# Altium schematic symbol library AnalogDevicesSW.SchLib: 93 symbols (part 1 of 3)
Pins are listed as number, name and electrical type; pins without a type are passive.

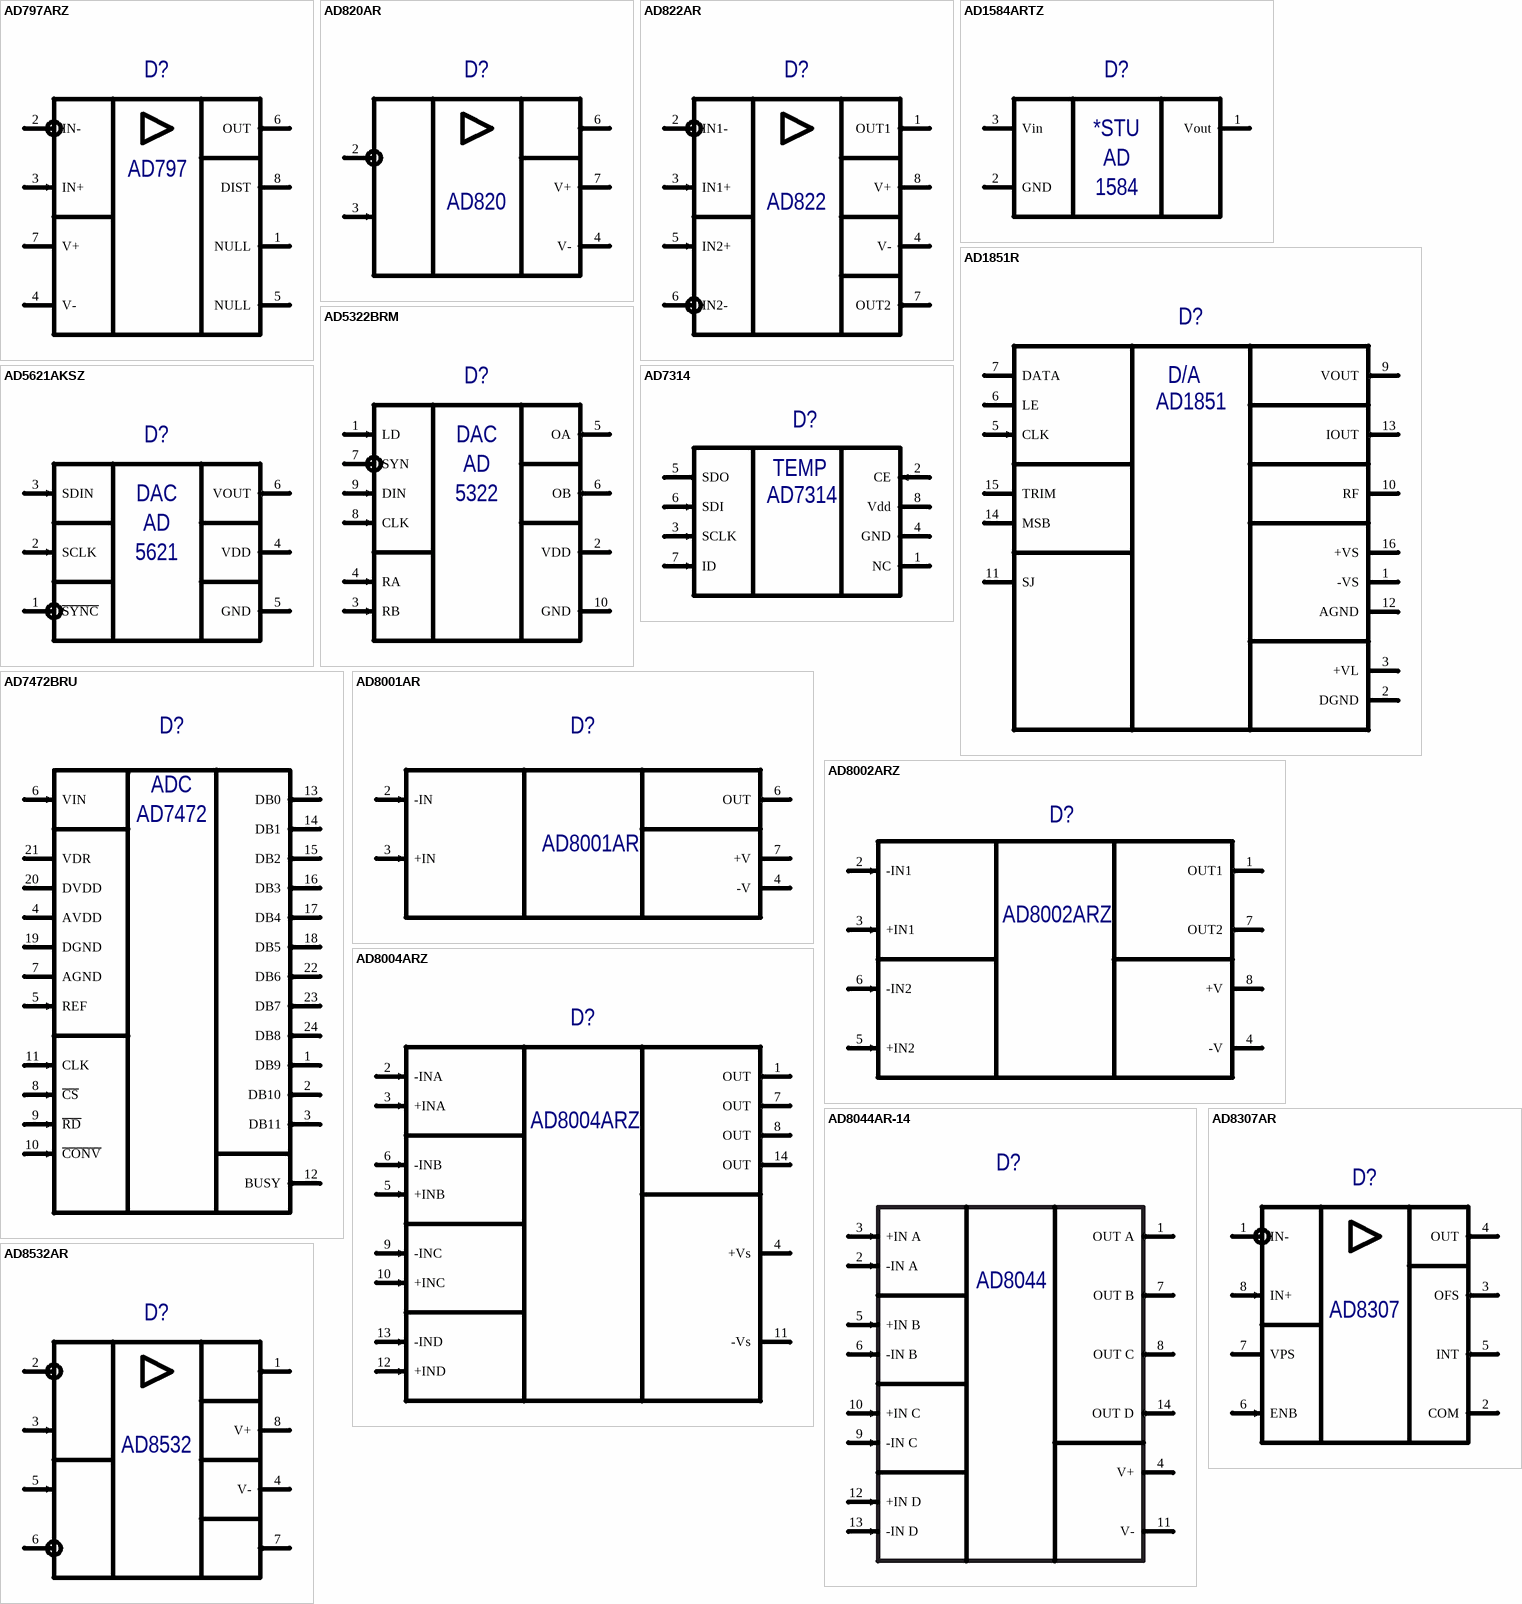
[diagram p0: symbols AD797ARZ to AD8532AR]

## AD797ARZ
designator D?  (value not drawn)
Ultralow Noise Op Amp; Manufacturer: Analog Devices; Type: Микросхема; BCPId: *; Name: *; Package: R-8; ManufacturerPartNumber: AD797ARZ
footprint SOIC127P600-8M (SOIC, 8-Leads, Body 4.9x3.9mm, Pitch 1.27mm, IPC Low Density)
pins: 1 NULL (power) "OFFSET NULL", 2 IN- (in) "IN1-", 3 IN+ (in) "IN1+", 4 V- (power) "0V power pin", 5 NULL (power) "OFFSET NULL", 6 OUT (out) "OUT2", 7 V+ (power) "5 V to 30 V power pin", 8 DIST (power) "OFFSET NULL"
text: AD797

## AD820AR
designator D?  (value not drawn)
Single Supply, Rail-to-Rail Low Power FET-Input Op Amp; Manufacturer: Analog Devices; Type: Микросхема; SymAuthor: Ерешко П.А.; BCPId: *; Name: *; Package: R-8; ManufacturerPartNumber: AD820AR
footprint SOIC127P600-8M (SOIC, 8-Leads, Body 4.9x3.9mm, Pitch 1.27mm, IPC Low Density)
pins: 2 IN- (in), 3 IN+ (in), 4 V- (power) "0V power pin", 6 OUT (out), 7 V+ (power) "5 V to 30 V power pin"
text: AD820

## AD822AR
designator D?  (value not drawn)
Single Supply, Rail-to-Rail Low Power FET-Input Op Amp; Manufacturer: Analog Devices; Type: Микросхема; BCPId: *; Name: *; Package: R-8; ManufacturerPartNumber: AD822AR
footprint SOIC127P600-8M (SOIC, 8-Leads, Body 4.9x3.9mm, Pitch 1.27mm, IPC Low Density)
pins: 1 OUT1 (out), 2 IN1- (in), 3 IN1+ (in), 4 V- (power) "0V power pin", 5 IN2+ (in), 6 IN2- (in), 7 OUT2 (out), 8 V+ (power) "5 V to 30 V power pin"
text: AD822

## AD1584ARTZ
designator D?  (value not drawn)
4.096 V Micropower, Precision Series Mode Voltage Reference; Manufacturer: Analog Devices; Type: Микросхема; BCPId: *; Name: *; Package: SOT-23-3; ManufacturerPartNumber: AD1584ARTZ
footprint SOT23-3L (SOT23, 3-Leads, Body 2.9x1.3mm, Pitch 0.95mm, Lead Span 2.5mm, IPC High Density)
footprint SOT23-3M (SOT23, 3-Leads, Body 2.9x1.3mm, Pitch 0.95mm, Lead Span 2.5mm, IPC Low Density)
footprint SOT23-3N (SOT23, 3-Leads, Body 2.9x1.3mm, Pitch 0.95mm, Lead Span 2.5mm, IPC Medium Density)
pins: 1 Vout (power) "Output", 2 GND (power) "Ground", 3 Vin (power) "Input"
text: *STU; AD; 1584

## AD1851R
designator D?  (value not drawn)
16-Bit DAC; Manufacturer: Analog Devices; Type: Микросхема; BCPId: *; Name: *; Package: R-16 (16-pin SOIC); ManufacturerPartNumber: AD1851R
footprint SOIC127P1030X265-16N (SOIC, 16-Leads, Body 10,30x7,50mm, Pitch 1,27mm, IPC Medium Density)
pins: 1 -VS (power) "Analog Negative Power Supply", 2 DGND (power) "Logic Ground", 3 +VL (power) "Logic Positive Power Supply", 4 NC hidden, 5 CLK (in) "Clock Input", 6 LE "Latch Enable Input", 7 DATA "Serial Data Input", 8 NC hidden, 9 VOUT (out) "Voltage Output", 10 RF "Feedback Resistor", 11 SJ "Summing Junction", 12 AGND (power) "Analog Ground", 13 IOUT (out) "Current Output", 14 MSB "MSB Adjustment Terminal", 15 TRIM "MSB Trimming Potentiometer Terminal", 16 +VS (power) "Analog Positive Power Supply"
text: D/A; AD1851

## AD5322BRM
designator D?  (value not drawn)
12-Bit DAC; Manufacturer: Analog Devices; Type: Микросхема; BCPId: *; Name: *; Package: RM-10; ManufacturerPartNumber: AD5322BRM
footprint TSSOP50P490X110-10N (TSSOP, 10-Leads, Body 3,0x3,0mm (max), Pitch 0,50mm, IPC Medium Density)
pins: 1 LD (in) "Active Low Control Input.", 2 VDD (power) "Power Supply Input from 2.5 V to 5.5 V", 3 RB (in) "Reference Input Pin for DAC B", 4 RA (in) "Reference Input Pin for DAC A", 5 OA (out) "Buffered Analog Output Voltage from DAC A", 6 OB (out) "Buffered Analog Output Voltage from DAC B", 7 SYN (in) "Active Low Control Input", 8 CLK (in) "Serial Clock Input", 9 DIN (in) "Serial Data Input", 10 GND (power) "Ground Reference Point for All Circuitry on the Part"
text: DAC; AD; 5322

## AD5621AKSZ
designator D?  (value not drawn)
12-Bit DAC; Manufacturer: Analog Devices; Type: Микросхема; SymAuthor: Ерешко П.А.; BCPId: *; Name: *; Package: KS-6; ManufacturerPartNumber: AD5621AKSZ
footprint SC70-6 (6-Lead Plastic SC70)
pins: 1 ~{SYNС} (in) "Active Low Control Input", 2 SCLK (in) "Serial Clock Input", 3 SDIN (in) "Serial Data Input", 4 VDD (power) "Power Supply Input from 2.7 V to 5.5 V", 5 GND (power) "Ground", 6 VOUT (out) "Analog Output Voltage from the DAC"
text: DAC; AD; 5621

## AD7314
designator D?  (value not drawn)
Low Voltage, 10-Bit Digital Temperature  Sensor in 8-Lead MSOP; Manufacturer: Analog Devices; ManufacturerPartNumber: AD7314ARMZ; Type: Микросхема; SymAuthor: Календарова В.; BCPId: *; Package: RM-8; TU/GOST: *
footprint TSOP65P490X110-8N (Shrink Small Outline; 8 Leads; Body Width 3 mm; Pitch 0.65 mm)
pins: 1 NC, 2 CE (in), 3 SCLK (in), 4 GND (power), 5 SDO (out), 6 SDI (in), 7 ID (in), 8 Vdd (power)
text: TEMP

## AD7472BRU
designator D?  (value not drawn)
АЦП одноканальный разрядностью 12 бит с параллельным интерфейсом; Manufacturer: Analog Devices; Type: Микросхема; SymAuthor: Семенов В.С.; BCPId: *; ManufacturerPartNumber: AD7472BRU; Package: RU-24
footprint TSOP65P640X120-24N (TSOP, 24-Leads, Body 6,6x4,5mm (max), Pitch 0,65mm, IPC Medium Density)
pins: 1 DB9 (out) "Цифровой выход параллельного интерфейса", 2 DB10 (out) "Цифровой выход параллельного интерфейса", 3 DB11 (out) "Цифровой выход параллельного интерфейса", 4 AVDD (power) "Вход питания аналоговых цепей", 5 REF (in) "Вход для внешнего опорного напряжения", 6 VIN (in) "Аналоговый вход для измеряемого напряжения", 7 AGND (power) "Земля аналоговых цепей", 8 ~{CS} (in) "Инверсный вход, выбор чипа", 9 ~{RD} (in) "Инверсный вход выбора режима чтения", 10 ~{CONV} (in) "Инверсный вход сигнала запуска преобразования", 11 CLK (in) "Вход тактирования параллельного интерфейса", 12 BUSY (out) "Цифровой выход сигнала индикации состояния микросхемы", 13 DB0 (out) "Цифровой выход параллельного интерфейса", 14 DB1 (out) "Цифровой выход параллельного интерфейса", 15 DB2 (out) "Цифровой выход параллельного интерфейса", 16 DB3 (out) "Цифровой выход параллельного интерфейса", 17 DB4 (out) "Цифровой выход параллельного интерфейса", 18 DB5 (out) "Цифровой выход параллельного интерфейса", 19 DGND (power) "Земля цифровых цепей", 20 DVDD (power) "Вход питания цифровых цепей", 21 VDR (power) "Вход питания драйверов цепей параллельного интерфейса", 22 DB6 (out) "Цифровой выход параллельного интерфейса", 23 DB7 (out) "Цифровой выход параллельного интерфейса", 24 DB8 (out) "Цифровой выход параллельного интерфейса"
text: ADC; AD7472

## AD8001AR
designator D?  (value not drawn)
800 MHz, 50 mW  Current Feedback Amplifier; Manufacturer: Analog Devices; Type: Микросхема; BCPId: *; ManufacturerPartNumber: AD8001AR; Package: R-8 (8-Lead SOIC)
footprint SOIC127P600-8M (SOIC, 8-Leads, Body 4.9x3.9mm, Pitch 1.27mm, IPC Low Density)
pins: 1 NC hidden, 2 -IN (in), 3 +IN (in), 4 -V (power), 5 NC hidden, 6 OUT (out), 7 +V (power), 8 NC hidden

## AD8002ARZ
designator D?
Dual 600 MHz, 50 mW  Current Feedback Amplifier; Manufacturer: Analog Devices; ManufacturerPartNumber: AD8002ARZ; Type: Микросхема; BCPId: *; Package: R-8 (8-Lead SOIC)
footprint SOIC127P600-8M (SOIC, 8-Leads, Body 4.9x3.9mm, Pitch 1.27mm, IPC Low Density)
pins: 1 OUT1 (out) "Output 1", 2 -IN1 (in) "Inverting Input 1", 3 +IN1 (in) "Noninverting Input 1", 4 -V (power) "VEE or Negative Supply", 5 +IN2 (in) "Noninverting Input 2", 6 -IN2 (in) "Inverting Input 2", 7 OUT2 (out) "Output 2", 8 +V (power) "VCC or Positive Supply"

## AD8004ARZ
designator D?, comment AD8004ARZ-14  (value not drawn)
Quad 3000 V/ms, 35 mW  Current Feedback Amplifier; Manufacturer: Analog Devices; Type: Микросхема; BCPId: *; Name: *; Package: R-14; ManufacturerPartNumber: AD8004ARZ-14
footprint SOIC127P600X175-14N (SOIC, 14-Leads, Body 8.7x3.9mm, Pitch 1.27mm, IPC Medium Density)
pins: 1 OUT (out), 2 -INA (in), 3 +INA (in), 4 +Vs (power), 5 +INB (in), 6 -INB (in), 7 OUT (out), 8 OUT (out), 9 -INC (in), 10 +INC (in), 11 -Vs (power), 12 +IND (in), 13 -IND (in), 14 OUT (out)

## AD8044AR-14
designator D?
Quad 150 MHz  Rail-to-Rail Amplifier; Manufacturer: Analog Devices; ManufacturerPartNumber: AD8044AR-14; Type: Микросхема; BCPId: *; Package: R-14
footprint SOIC127P600X175-14N (SOIC, 14-Leads, Body 8.7x3.9mm, Pitch 1.27mm, IPC Medium Density)
pins: 1 OUT A (out) "Output A channel", 2 -IN A (in) "Input A channel", 3 +IN A (in) "Input A channel", 4 V+ (power) "Power", 5 +IN B (in) "Input B channel", 6 -IN B (in) "Input B channel", 7 OUT B (out) "Output B channel", 8 OUT C (out) "Output C channel", 9 -IN C (in) "Input C channel", 10 +IN C (in) "Itput C channel", 11 V- (power) "Power", 12 +IN D (in) "Input D channel", 13 -IN D (in) "Input D channel", 14 OUT D (out) "Output D channel"
text: AD8044

## AD8307AR
designator D?  (value not drawn)
Logarithmic Amplifier DC-500 MHz, 92 dB; Manufacturer: Analog Devices; Type: Микросхема; BCPId: *; Name: *; Package: SO-8; ManufacturerPartNumber: AD8307AR
footprint SOIC127P600-8M (SOIC, 8-Leads, Body 4.9x3.9mm, Pitch 1.27mm, IPC Low Density)
pins: 1 IN- (in), 2 COM (power) "Common Pin (Usually Grounded).", 3 OFS (out) "Offset Adjustment; External Capacitor  Connection", 4 OUT (out), 5 INT (out) "Intercept Adjustment", 6 ENB (in) "Chip Enable", 7 VPS (power) "Positive Supply, 2.7V–5.5V.", 8 IN+ (in)
text: AD8307

## AD8532AR
designator D?  (value not drawn)
Low Cost, 250 mA Output Single-Supply Amplifier; Manufacturer: Analog Devices; Type: Микросхема; BCPId: *; Name: *; Package: RN-8; ManufacturerPartNumber: AD8532AR
footprint SOIC127P600-8M (SOIC, 8-Leads, Body 4.9x3.9mm, Pitch 1.27mm, IPC Low Density)
pins: 1 OUTA (out), 2 INA- (in), 3 INA+ (in), 4 V- (power) "0V power pin", 5 INB+ (in), 6 INB- (in), 7 OUTB (out), 8 V+ (power) "+2.7-6.0 V power pin"
text: AD8532

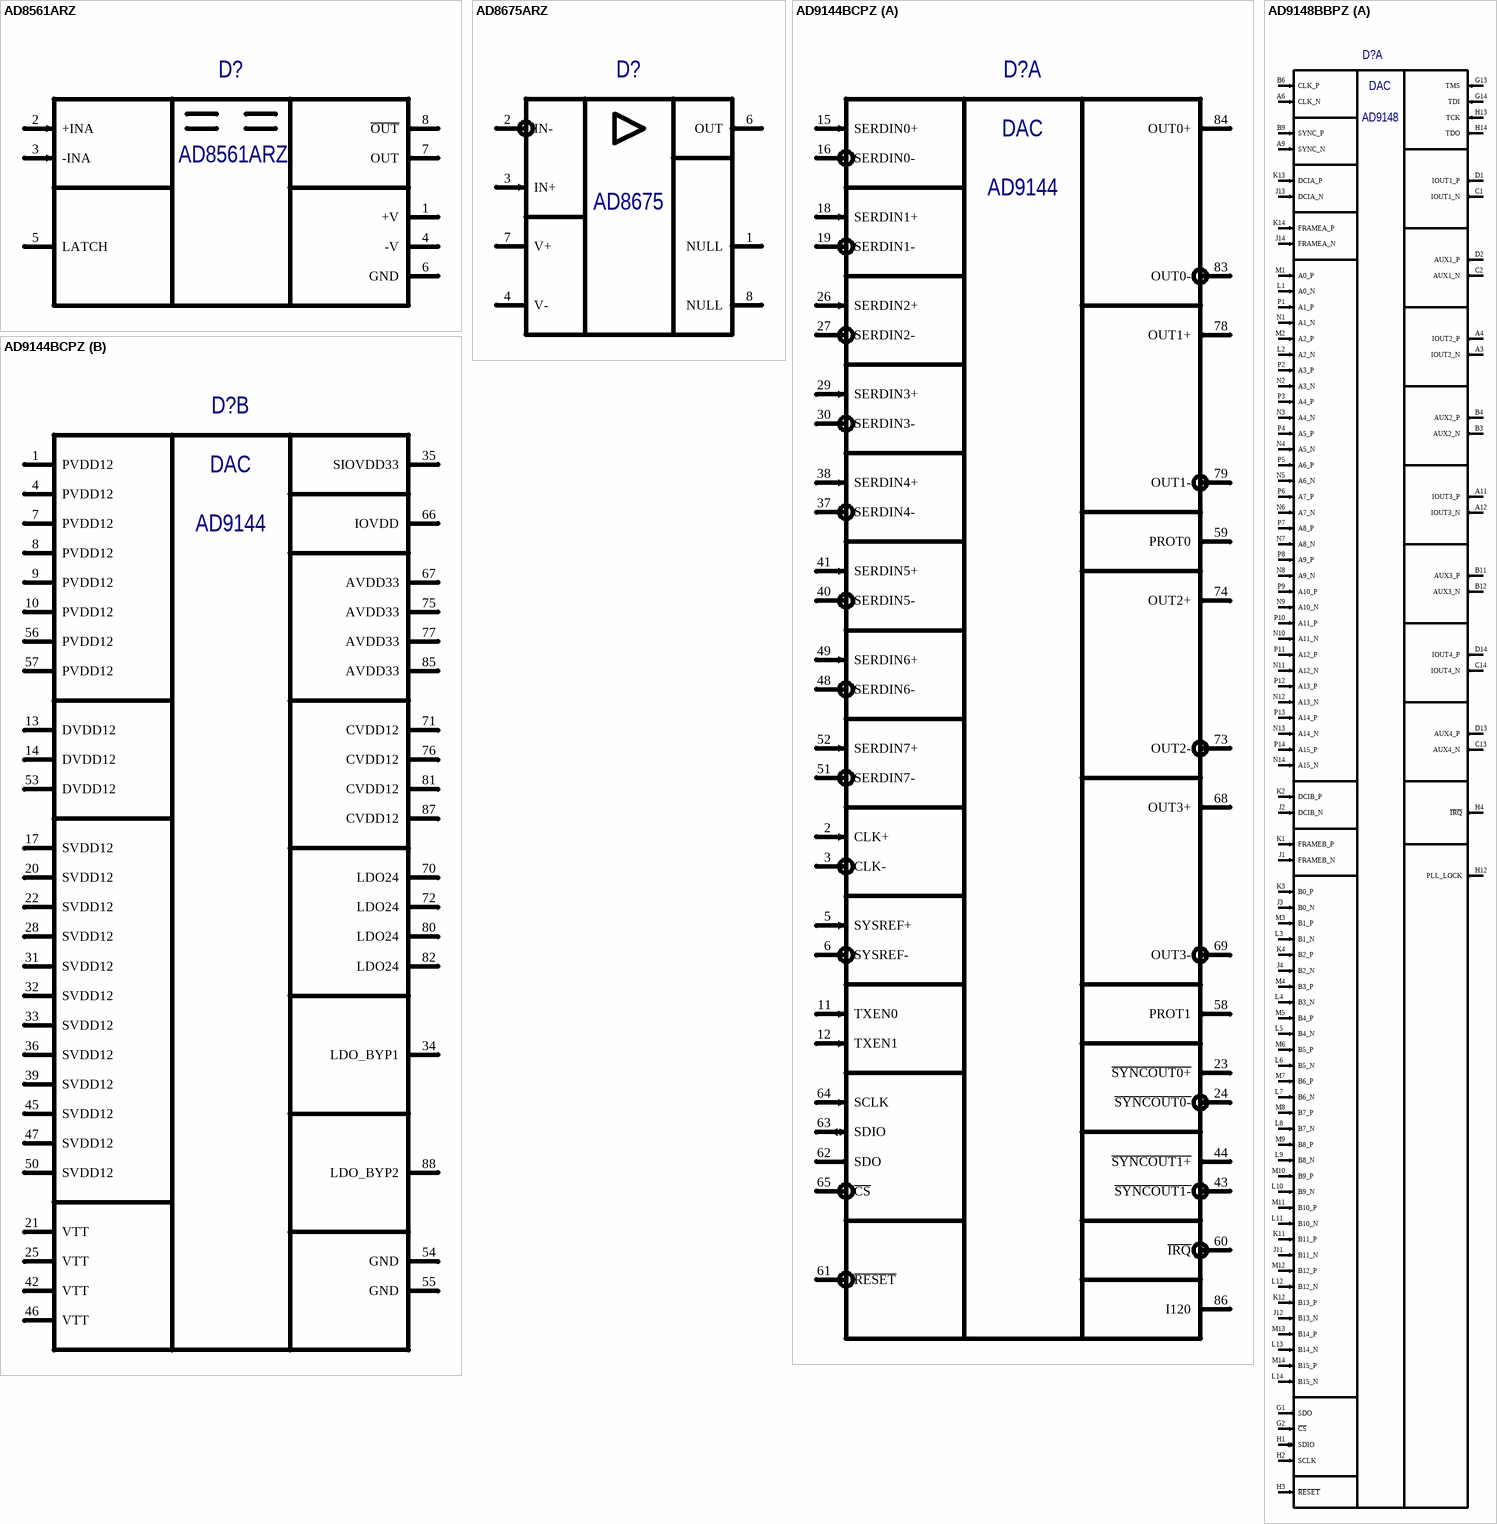
[diagram p1: symbols AD8561ARZ to AD9148BBPZ]

## AD8561ARZ
designator D?  (value not drawn)
Ultrafast 7 ns  Single Supply Comparator; Manufacturer: Analog Devices; Type: Микросхема; BCPId: *; Name: *; Package: R-8; ManufacturerPartNumber: AD8561ARZ
footprint SOIC127P600-8M (SOIC, 8-Leads, Body 4.9x3.9mm, Pitch 1.27mm, IPC Low Density)
pins: 1 +V (power), 2 +INA (in), 3 -INA (in), 4 -V (power), 5 LATCH, 6 GND (power), 7 OUT (out), 8 ~{OUT} (out)

## AD8675ARZ
designator D?  (value not drawn)
36 V Precision, 2.8 nV/√Hz  Rail-to-Rail Output Op Amp; Manufacturer: Analog Devices; Type: Микросхема; BCPId: *; Name: *; Package: R-8; ManufacturerPartNumber: AD8675ARZ
footprint SOIC127P600-8M (SOIC, 8-Leads, Body 4.9x3.9mm, Pitch 1.27mm, IPC Low Density)
pins: 1 NULL (power) "OUT1", 2 IN- (in) "IN1-", 3 IN+ (in) "IN1+", 4 V- (power) "0V power pin", 6 OUT (out) "OUT2", 7 V+ (power) "5 V to 30 V power pin", 8 NULL (power) "5 V to 30 V power pin"
text: AD8675

## AD9144BCPZ
designator D?  (value not drawn)
Quad, 16-Bit, 2.8 GSPS, TxDAC; Manufacturer: Analog Devices; Type: Микросхема; SymAuthor: Ерешко П.А.; Package: CP-88-6; ManufacturerPartNumber: AD9144BCPZ
footprint QFN50P1200X1200X90_HS-89N (QFN, 88-Leads, Body 12,00x12,00mm, Pitch 0,50mm, Thermal Pad 7,40x7,40mm, IPC Medium Density)
part A pins: 2 CLK+ (in) "PLL Reference/Clock Positive Input", 3 CLK- (in) "PLL Reference/Clock Negative Input", 5 SYSREF+ (in) "Positive Reference Clock for Deterministic Latency", 6 SYSREF- (in) "Negative Reference Clock for Deterministic Latency", 11 TXEN0 (in) "Transmit Enable for DAC0 and DAC1", 12 TXEN1 (in) "Transmit Enable for DAC2 and DAC3", 15 SERDIN0+ (in) "Serial Channel Positive Input 0. CML compliant", 16 SERDIN0- (in) "Serial Channel Negative Input 0. CML compliant", 18 SERDIN1+ (in) "Serial Channel Positive Input 1. CML compliant", 19 SERDIN1- (in) "Serial Channel Negative Input 1. CML compliant", 23 ~{SYNCOUT0+} (out) "Positive LVDS Sync Output Signal Channel Link 0", 24 ~{SYNCOUT0-} (out) "Negative LVDS Sync Output Signal Channel Link 0", 26 SERDIN2+ (in) "Serial Channel Positive Input 2. CML compliant", 27 SERDIN2- (in) "Serial Channel Negative Input 2. CML compliant", 29 SERDIN3+ (in) "Serial Channel Positive Input 3. CML compliant", 30 SERDIN3- (in) "Serial Channel Negative Input 3. CML compliant", 37 SERDIN4- (in) "Serial Channel Negative Input 4. CML compliant", 38 SERDIN4+ (in) "Serial Channel Positive Input 4. CML compliant", 40 SERDIN5- (in) "Serial Channel Negative Input 5. CML compliant", 41 SERDIN5+ (in) "Serial Channel Positive Input 5. CML compliant", 43 ~{SYNCOUT1-} (out) "Negative LVDS Sync Output Signal Channel Link 1", 44 ~{SYNCOUT1+} (out) "Positive LVDS Sync Output Signal Channel Link 1", 48 SERDIN6- (in) "Serial Channel Negative Input 6. CML compliant", 49 SERDIN6+ (in) "Serial Channel Positive Input 6. CML compliant", 51 SERDIN7- (in) "Serial Channel Negative Input 7. CML compliant", 52 SERDIN7+ (in) "Serial Channel Positive Input 7. CML compliant", 58 PROT1 (out) "Power Detection Protection", 59 PROT0 (out) "Power Detection Protection", 60 ~{IRQ} (out) "Interrupt Request", 61 ~{RESET} (in) "Reset. This pin is active low", 62 SDO (out) "Serial Port Data Output", 63 SDIO (io) "Serial Port Data Input/Output", 64 SCLK (in) "Serial Port Clock Input", 65 ~{CS} (in) "Serial Port Chip Select", 68 OUT3+ (out) "DAC3 Positive Current Output", 69 OUT3- (out) "DAC3 Negative Current Output", 73 OUT2- (out) "DAC2 Negative Current Output", 74 OUT2+ (out) "DAC2 Positive Current Output", 78 OUT1+ (out) "DAC1 Positive Current Output.", 79 OUT1- (out) "DAC1 Negative Current Output.", 83 OUT0- (out) "DAC0 Negative Current Output", 84 OUT0+ (out) "DAC0 Positive Current Output", 86 I120 "Output Current Generation Pin for DAC Full-Scale Current", EPAD (power) hidden to GND "Exposed Pad. Connect to GND"
part B pins: 1 PVDD12 (power) "1.2V Supply", 4 PVDD12 (power) "1.2 V Supply. PVDD12 provides a clean supply", 7 PVDD12 (power) "1.2 V Supply. PVDD12 provides a clean supply", 8 PVDD12 (power) "1.2 V Supply. PVDD12 provides a clean supply", 9 PVDD12 (power) "1.2 V Supply. PVDD12 provides a clean supply", 10 PVDD12 (power) "1.2 V Supply. PVDD12 provides a clean supply", 13 DVDD12 (power) "1.2 V Digital Supply", 14 DVDD12 (power) "1.2 V Digital Supply", 17 SVDD12 (power) "1.2 V JESD204B Receiver Supply", 20 SVDD12 (power) "1.2 V JESD204B Receiver Supply", 21 VTT (power) "1.2 V Termination Voltage", 22 SVDD12 (power) "1.2 V JESD204B Receiver Supply", 25 VTT (power) "1.2 V Termination Voltage", 28 SVDD12 (power) "1.2 V JESD204B Receiver Supply", 31 SVDD12 (power) "1.2 V JESD204B Receiver Supply.", 32 SVDD12 (power) "1.2 V JESD204B Receiver Supply.", 33 SVDD12 (power) "1.2 V JESD204B Receiver Supply.", 34 LDO_BYP1 "LDO SERDES Bypass", 35 SIOVDD33 (power) "3.3 V Supply for SERDES", 36 SVDD12 (power) "1.2 V JESD204B Receiver Supply", 39 SVDD12 (power) "1.2 V JESD204B Receiver Supply", 42 VTT (power) "1.2 V Termination Voltage", 45 SVDD12 (power) "1.2 V JESD204B Receiver Supply", 46 VTT (power) "1.2 V Termination Voltage", 47 SVDD12 (power) "1.2 V JESD204B Receiver Supply", 50 SVDD12 (power) "1.2 V JESD204B Receiver Supply", 53 DVDD12 (power) "1.2 V Digital Supply", 54 GND (power) "Ground", 55 GND (power) "Ground", 56 PVDD12 (power) "1.2 V Supply", 57 PVDD12 (power) "1.2 V Supply", 66 IOVDD (power) "IOVDD Supply for CMOS Input/Output and SPI", 67 AVDD33 (power) "3.3 V Analog Supply for DAC Cores", 70 LDO24 "2.4 V LDO", 71 CVDD12 "1.2 V Clock Supply. Place bypass capacitors as near as possible to Pin 71", 72 LDO24 "2.4 V LDO", 75 AVDD33 (power) "3.3 V Analog Supply for DAC Cores.", 76 CVDD12 "1.2 V Clock Supply. Place bypass capacitors as near as possible to Pin 76", 77 AVDD33 (power) "3.3 V Analog Supply for DAC Cores.", 80 LDO24 "2.4 V LDO", 81 CVDD12 "1.2 V Clock Supply. Place bypass capacitors as near as possible to Pin 81", 82 LDO24 "2.4 V LDO", 85 AVDD33 (power) "3.3 V Analog Supply for DAC Cores", 87 CVDD12 "1.2 V Clock Supply", 88 LDO_BYP2 "LDO Clock Bypass for DAC PLL"
part A text: DAC; AD9144
part B text: DAC; AD9144

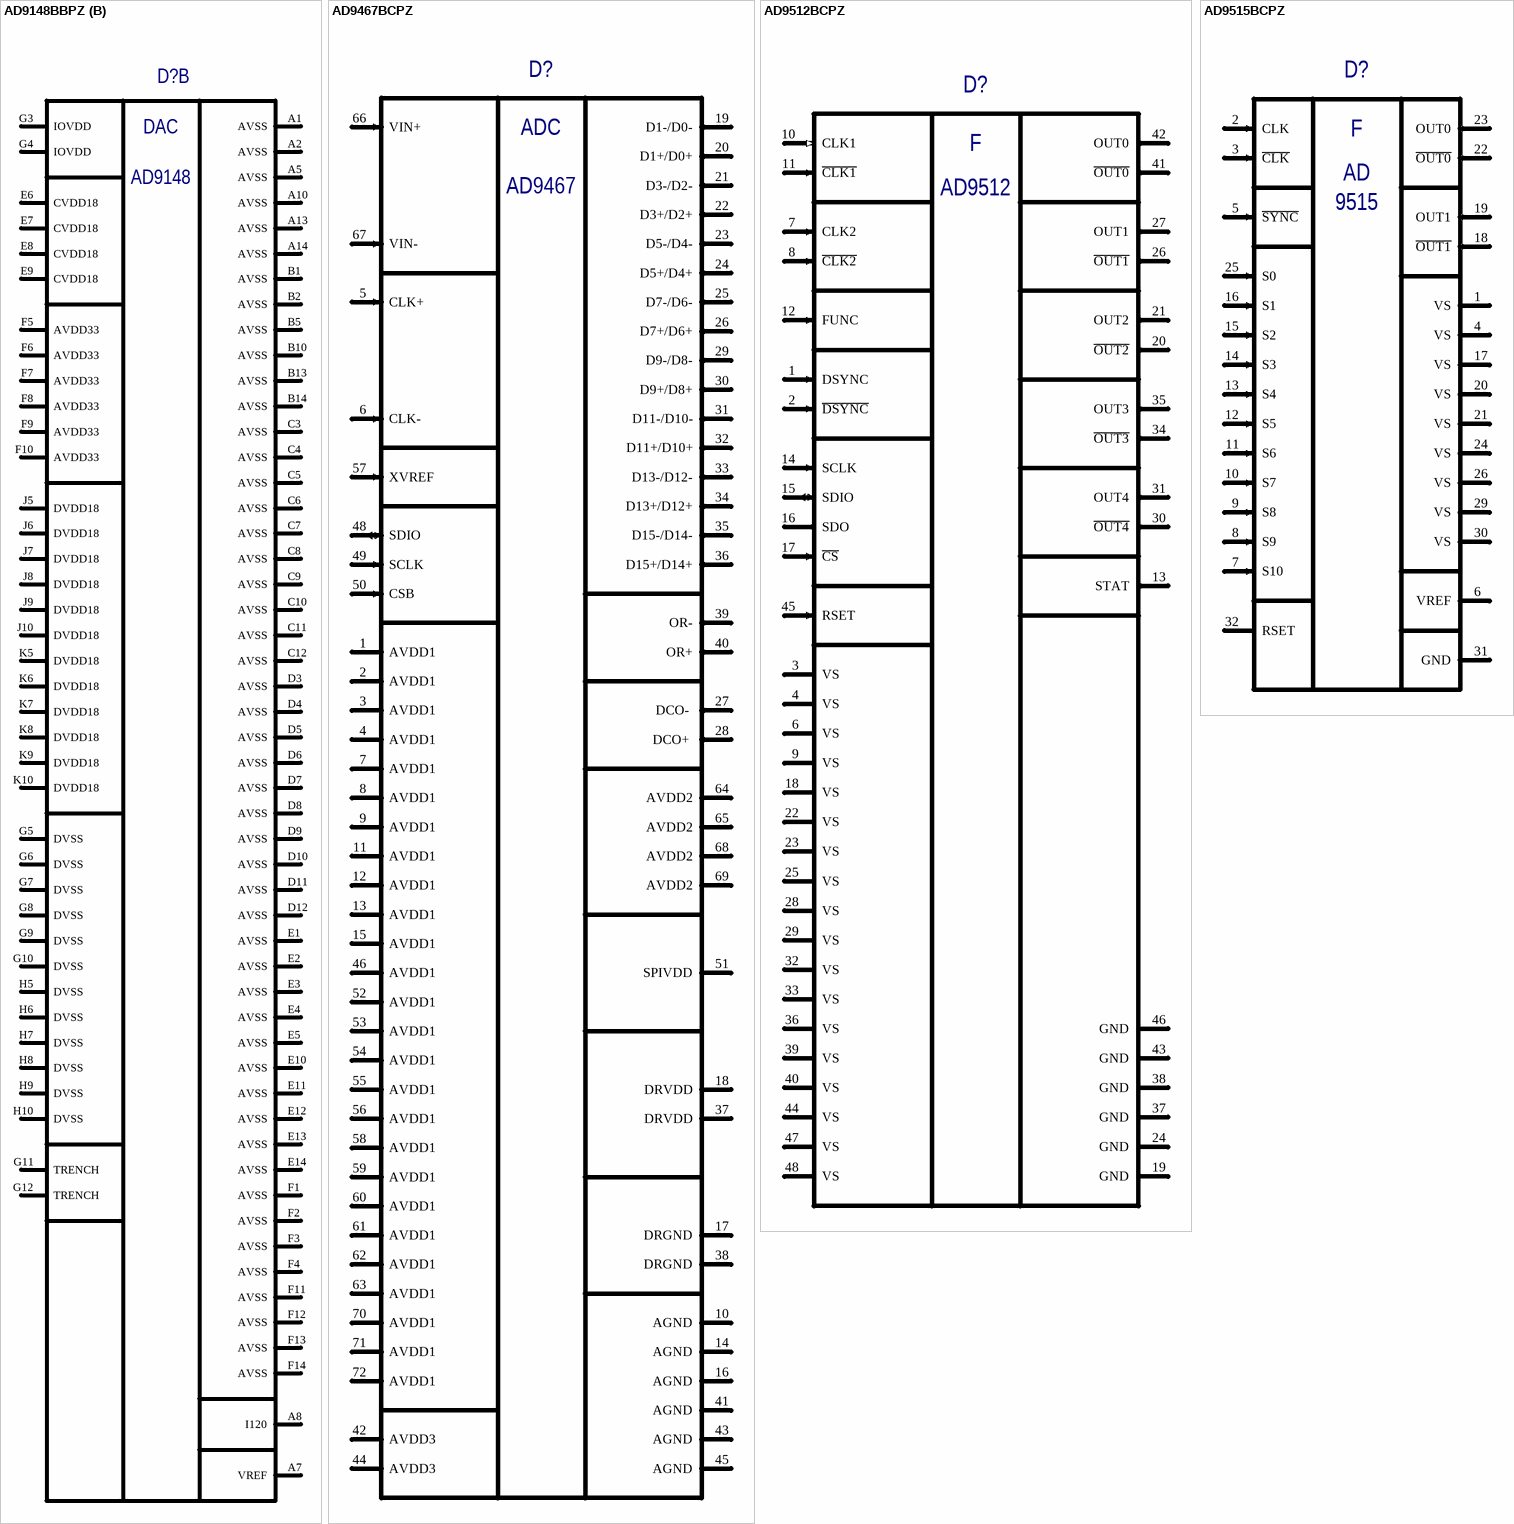
[diagram p2: symbols AD9148BBPZ to AD9515BCPZ]

## AD9148BBPZ
designator D?  (value not drawn)
Quad 16-Bit,1 GSPS digital-to analog converter (DAC).; Manufacturer: Analog Devices; Type: Микросхема; SymAuthor: Антонов М.С.; BCPId: *; HelpURL: *; ManufacturerPartNumber: AD9148BBPZ; Name: *; Package: BP-196-1; Price: *; Rem: *; TU/GOST: *
footprint BGA196C80P14X14_1200X1200X150 (BGA, 196-Leads, Body 12,00x12,00mmx1,50mm, Pitch 0,80mm)
part A pins:  L1 A0_N (in) "LVDS Data Input Pair, Port A.",  L2 A2_N (in) "LVDS Data Input Pair, Port A.", A3  IOUT2_N  (out) "DAC 2 Complementary Output Current.", A4  IOUT2_P  (out) "DAC 2 Positive Output Current.", A6 CLK_N (in) "Positive/Negative DAC Clock Input (CLK).", A9 SYNC_N (in) "PLL Reference Clock Input (REFCLK_x). This pin has a secondary function as", A11 IOUT3_P  (out) "DAC 3 Complementary Output Current.", A12 IOUT3_N  (out) "DAC 3 Positive Output Current.", B3  AUX2_N  (out) "Auxiliary DAC 2 Complementary Output Current.", B4  AUX2_P  (out) "Auxiliary DAC 2 Positive Output Current.", B6 CLK_P (in) "Positive/Negative DAC Clock Input (CLK).", B9 SYNC_P (in) "PLL Reference Clock Input (REFCLK_x). This pin has a secondary function as", B11  AUX3_P  (out) "Auxiliary DAC 3 Positive Output Current.", B12  AUX3_N  (out) "Auxiliary DAC 3 Complementary Output Current.", C1 IOUT1_N  (out) "DAC 1 Complementary Output Current.", C2  AUX1_N  (out) "Auxiliary DAC 1 Complementary Output Current.", C13  AUX4_N  (out) "Auxiliary DAC 4 Complementary Output Current.", C14  IOUT4_N  (out) "DAC 4 Complementary Output Current.", D1 IOUT1_P  (out) "DAC 1 Positive Output Current.", D2  AUX1_P  (out) "Auxiliary DAC 1 Positive Output Current.", D13  AUX4_P  (out) "Auxiliary DAC 4 Positive Output Current.", D14  IOUT4_P  (out) "DAC 4 Positive Output Current.", G1 SDO  (out) "Serial Data Output for SPI.", G2 ~{CS} (in) "Active Low Chip Select for SPI.", G13  TMS  (in) "Reserved for Future Use. Connect to DVSS.", G14  TDI  (in) "Reserved for Future Use. Connect to DVSS.", H1 SDIO  (io) "Serial Data Input/Output for SPI.", H2 SCLK  (in) "Qualifying Clock Input for SPI.", H3 ~{RESET} (in) "An active low LVCMOS input resets the device. Pull up to IOVDD.", H4 ~{IRQ} (out) "Active Low Open-Drain Interrupt Request Output. Pull up to IOVDD with   a 10 kΩresistor", H12 PLL_LOCK (out) "Active High LVCMOS Output. It indicates the lock status of the PLL circuitry.", H13  TCK  (in) "Reserved for Future Use. Connect to DVSS.", H14  TDO  (out) "Reserved for Future Use. Leave unconnected.", J1 FRAMEB_N (in) "LVDS Frame Input for Port B. Tie to LVDS logic low if not used.", J2 DCIB_N (in) "LVDS Data Clock Input Pair for Port B.", J3  B0_N  (in) "LVDS Data Input Pair, Port A.", J4  B2_N  (in) "LVDS Data Input Pair, Port A.", J11  B11_N (in) "LVDS Data Input Pair, Port A.", J12  B13_N (in) "LVDS Data Input Pair, Port A.", J13 DCIA_N  (in) "LVDS Data Clock Input Pair for Port A.", J14 FRAMEA_N (in) "LVDS Frame Input for Port A. Tie to LVDS logic low if not used.", K1 FRAMEB_P (in) "LVDS Frame Input for Port B. Tie to LVDS logic low if not used.", K2 DCIB_P (in) "LVDS Data Clock Input Pair for Port B.", K3 B0_P (in) "LVDS Data Input Pair, Port A.", K4 B2_P (in) "LVDS Data Input Pair, Port A.", K11 B11_P (in) "LVDS Data Input Pair, Port A.", K12 B13_P (in) "LVDS Data Input Pair, Port A.", K13 DCIA_P (in) "LVDS Data Clock Input Pair for Port A.", K14 FRAMEA_P  (in) "LVDS Frame Input for Port A. Tie to LVDS logic low if not used.", L3  B1_N  (in) "LVDS Data Input Pair, Port A.", L4  B3_N  (in) "LVDS Data Input Pair, Port A.", L5  B4_N  (in) "LVDS Data Input Pair, Port A.", L6  B5_N  (in) "LVDS Data Input Pair, Port A.", L7  B6_N (in) "LVDS Data Input Pair, Port A.", L8  B7_N (in) "LVDS Data Input Pair, Port A.", L9  B8_N (in) "LVDS Data Input Pair, Port A.", L10  B9_N (in) "LVDS Data Input Pair, Port A.", L11  B10_N (in) "LVDS Data Input Pair, Port A.", L12  B12_N (in) "LVDS Data Input Pair, Port A.", L13  B14_N (in) "LVDS Data Input Pair, Port A.", L14  B15_N (in) "LVDS Data Input Pair, Port A.", M1 A0_P (in) "LVDS Data Input Pair, Port A.", M2 A2_P (in) "LVDS Data Input Pair, Port A.", M3 B1_P (in) "LVDS Data Input Pair, Port A.", M4 B3_P (in) "LVDS Data Input Pair, Port A.", M5 B4_P (in) "LVDS Data Input Pair, Port A.", M6 B5_P (in) "LVDS Data Input Pair, Port A.", M7 B6_P (in) "LVDS Data Input Pair, Port A.", M8 B7_P (in) "LVDS Data Input Pair, Port A.", M9 B8_P (in) "LVDS Data Input Pair, Port A.", M10 B9_P (in) "LVDS Data Input Pair, Port A.", M11 B10_P (in) "LVDS Data Input Pair, Port A.", M12 B12_P (in) "LVDS Data Input Pair, Port A.", M13 B14_P (in) "LVDS Data Input Pair, Port A.", M14 B15_P (in) "LVDS Data Input Pair, Port A.", N1 A1_N (in) "LVDS Data Input Pair, Port A.", N2 A3_N (in) "LVDS Data Input Pair, Port A.", N3 A4_N (in) "LVDS Data Input Pair, Port A.", N4 A5_N (in) "LVDS Data Input Pair, Port A.", N5 A6_N (in) "LVDS Data Input Pair, Port A.", N6 A7_N (in) "LVDS Data Input Pair, Port A.", N7 A8_N (in) "LVDS Data Input Pair, Port A.", N8 A9_N (in) "LVDS Data Input Pair, Port A.", N9 A10_N (in) "LVDS Data Input Pair, Port A.", N10 A11_N (in) "LVDS Data Input Pair, Port A.", N11 A12_N (in) "LVDS Data Input Pair, Port A.", N12 A13_N (in) "LVDS Data Input Pair, Port A.", N13 A14_N (in) "LVDS Data Input Pair, Port A.", N14 A15_N (in) "LVDS Data Input Pair, Port A.", P1 A1_P (in) "LVDS Data Input Pair, Port A.", P2 A3_P (in) "LVDS Data Input Pair, Port A.", P3 A4_P (in) "LVDS Data Input Pair, Port A.", P4 A5_P (in) "LVDS Data Input Pair, Port A.", P5 A6_P (in) "LVDS Data Input Pair, Port A.", P6 A7_P (in) "LVDS Data Input Pair, Port A.", P7 A8_P (in) "LVDS Data Input Pair, Port A.", P8 A9_P (in) "LVDS Data Input Pair, Port A.", P9 A10_P (in) "LVDS Data Input Pair, Port A.", P10 A11_P (in) "LVDS Data Input Pair, Port A.", P11 A12_P (in) "LVDS Data Input Pair, Port A.", P12 A13_P (in) "LVDS Data Input Pair, Port A.", P13 A14_P (in) "LVDS Data Input Pair, Port A.", P14 A15_P (in) "LVDS Data Input Pair, Port A."
part B pins: A1 AVSS (power) "Analog Supply Ground.", A2 AVSS (power) "Analog Supply Ground.", A5 AVSS (power) "Analog Supply Ground.", A7 VREF (power) "Band Gap Voltage Reference I/O. Decouple to analog ground via a 0.1 µF   capacitor. Output impedance is approximately 5 kΩ.", A8 I120 (power) "Tie to analog ground via a 10 kΩ resistor to generate a 120 µA reference current.", A10 AVSS (power) "Analog Supply Ground.", A13 AVSS (power) "Analog Supply Ground.", A14 AVSS (power) "Analog Supply Ground.", B1 AVSS (power) "Analog Supply Ground.", B2 AVSS (power) "Analog Supply Ground.", B5 AVSS (power) "Analog Supply Ground.", B7 NC hidden "Do not connect", B8 NC hidden "Do not connect", B10 AVSS (power) "Analog Supply Ground.", B13 AVSS (power) "Analog Supply Ground.", B14 AVSS (power) "Analog Supply Ground.", C3 AVSS (power) "Analog Supply Ground.", C4 AVSS (power) "Analog Supply Ground.", C5 AVSS (power) "Analog Supply Ground.", C6 AVSS (power) "Analog Supply Ground.", C7 AVSS (power) "Analog Supply Ground.", C8 AVSS (power) "Analog Supply Ground.", C9 AVSS (power) "Analog Supply Ground.", C10 AVSS (power) "Analog Supply Ground.", C11 AVSS (power) "Analog Supply Ground.", C12 AVSS (power) "Analog Supply Ground.", D3 AVSS (power) "Analog Supply Ground.", D4 AVSS (power) "Analog Supply Ground.", D5 AVSS (power) "Analog Supply Ground.", D6 AVSS (power) "Analog Supply Ground.", D7 AVSS (power) "Analog Supply Ground.", D8 AVSS (power) "Analog Supply Ground.", D9 AVSS (power) "Analog Supply Ground.", D10 AVSS (power) "Analog Supply Ground.", D11 AVSS (power) "Analog Supply Ground.", D12 AVSS (power) "Analog Supply Ground.", E1 AVSS (power) "Analog Supply Ground.", E2 AVSS (power) "Analog Supply Ground.", E3 AVSS (power) "Analog Supply Ground.", E4 AVSS (power) "Analog Supply Ground.", E5 AVSS (power) "Analog Supply Ground.", E6 CVDD18 (power) "1.8 V Clock Supply.", E7 CVDD18 (power) "1.8 V Clock Supply.", E8 CVDD18 (power) "1.8 V Clock Supply.", E9 CVDD18 (power) "1.8 V Clock Supply.", E10 AVSS (power) "Analog Supply Ground.", E11 AVSS (power) "Analog Supply Ground.", E12 AVSS (power) "Analog Supply Ground.", E13 AVSS (power) "Analog Supply Ground.", E14 AVSS (power) "Analog Supply Ground.", F1 AVSS (power) "Analog Supply Ground.", F2 AVSS (power) "Analog Supply Ground.", F3 AVSS (power) "Analog Supply Ground.", F4 AVSS (power) "Analog Supply Ground.", F5 AVDD33 (power) "3.3 V Analog Supply.", F6 AVDD33 (power) "3.3 V Analog Supply.", F7 AVDD33 (power) "3.3 V Analog Supply.", F8 AVDD33 (power) "3.3 V Analog Supply.", F9 AVDD33 (power) "3.3 V Analog Supply.", F10 AVDD33 (power) "3.3 V Analog Supply.", F11 AVSS (power) "Analog Supply Ground.", F12 AVSS (power) "Analog Supply Ground.", F13 AVSS (power) "Analog Supply Ground.", F14 AVSS (power) "Analog Supply Ground.", G3 IOVDD (power) "Supply for Serial Ports.", G4 IOVDD (power) "Supply for Serial Ports.", G5 DVSS (power) "Digital Supply Ground.", G6 DVSS (power) "Digital Supply Ground.", G7 DVSS (power) "Digital Supply Ground.", G8 DVSS (power) "Digital Supply Ground.", G9 DVSS (power) "Digital Supply Ground.", G10 DVSS (power) "Digital Supply Ground.", G11 TRENCH (power) "Connect this pin to VSS.", G12 TRENCH (power) "Connect this pin to VSS.", H5 DVSS (power) "Digital Supply Ground.", H6 DVSS (power) "Digital Supply Ground.", H7 DVSS (power) "Digital Supply Ground.", H8 DVSS (power) "Digital Supply Ground.", H9 DVSS (power) "Digital Supply Ground.", H10 DVSS (power) "Digital Supply Ground.", H11 NC hidden "Do not connect", J5 DVDD18 (power) "1.8 V Digital Supply.", J6 DVDD18 (power) "1.8 V Digital Supply.", J7 DVDD18 (power) "1.8 V Digital Supply.", J8 DVDD18 (power) "1.8 V Digital Supply.", J9 DVDD18 (power) "1.8 V Digital Supply.", J10 DVDD18 (power) "1.8 V Digital Supply.", K5 DVDD18 (power) "1.8 V Digital Supply.", K6 DVDD18 (power) "1.8 V Digital Supply.", K7 DVDD18 (power) "1.8 V Digital Supply.", K8 DVDD18 (power) "1.8 V Digital Supply.", K9 DVDD18 (power) "1.8 V Digital Supply.", K10 DVDD18 (power) "1.8 V Digital Supply."
part A text: DAC; AD9148
part B text: DAC; AD9148

## AD9467BCPZ
designator D?, comment AD9467BCPZ-250  (value not drawn)
16-Bit, 250 MSPS ADC; Manufacturer: Analog Devices; Type: Микросхема; BCPId: *; Name: *; Package: CP-72-5; ManufacturerPartNumber: AD9467BCPZ-250; HelpURL: *; Price: *; Rem: *; TU/GOST: *
footprint QFN50P1000X1000X90-72N (QFN, 72-Leads, Body 10,0x10,0mm (max), Pitch 0,50mm, IPC Medium Density)
footprint QFN50P1000X1000X90-72N-HS1 (QFN, 72-Leads, Body 10,0x10,0mm (max), Pitch 0,50mm, IPC Medium Density)
footprint QFN50P1000X1000X90-72N - HS2 (QFN, 72-Leads, Body 10,0x10,0mm (max), Pitch 0,50mm, IPC Medium Density)
pins: 1 AVDD1 (power) "1.8 V Analog Supply.", 2 AVDD1 (power) "1.8 V Analog Supply.", 3 AVDD1 (power) "1.8 V Analog Supply.", 4 AVDD1 (power) "1.8 V Analog Supply.", 5 CLK+  (in) "Clock Input True.", 6 CLK- (in) "Clock Input Complement.", 7 AVDD1 (power) "1.8 V Analog Supply.", 8 AVDD1 (power) "1.8 V Analog Supply.", 9 AVDD1 (power) "1.8 V Analog Supply.", 10 AGND (power) "Analog Ground.", 11 AVDD1 (power) "1.8 V Analog Supply.", 12 AVDD1 (power) "1.8 V Analog Supply.", 13 AVDD1 (power) "1.8 V Analog Supply.", 14 AGND (power) "Analog Ground.", 15 AVDD1 (power) "1.8 V Analog Supply.", 16 AGND (power) "Analog Ground.", 17 DRGND (power) "Digital Output Driver Ground.", 18 DRVDD (power) "1.8 V Digital Output Driver Supply.", 19 D1-/D0- (out) "D1 and D0 (LSB) Digital Output Complement.", 20 D1+/D0+ (out) "D1 and D0 (LSB) Digital Output True.", 21 D3-/D2- (out) "D3 and D2 Digital Output Complement.", 22 D3+/D2+ (out) "D3 and D2 Digital Output True.", 23 D5-/D4- (out) "D5 and D4 Digital Output Complement.", 24 D5+/D4+ (out) "D5 and D4 Digital Output True.", 25 D7-/D6- (out) "D7 and D6 Digital Output Complement.", 26 D7+/D6+ (out) "D7 and D6 Digital Output True.", 27 DCO-  (out) "Data Clock Digital Output Complement.", 28 DCO+  (out) "Data Clock Digital Output True.", 29 D9-/D8- (out) "D9 and D8 Digital Output Complement.", 30 D9+/D8+ (out) "D9 and D8 Digital Output True.", 31 D11-/D10- (out) "D11 and D10 Digital Output Complement.", 32 D11+/D10+ (out) "D11 and D10 Digital Output True.", 33 D13-/D12- (out) "D13 and D12 Digital Output Complement.", 34 D13+/D12+ (out) "D13 and D12 Digital Output True.", 35 D15-/D14- (out) "D15 (MSB) and D14 Digital Output Complement.", 36 D15+/D14+ (out) "D15 (MSB) and D14 Digital Output True.", 37 DRVDD (power) "1.8 V Digital Output Driver Supply.", 38 DRGND (power) "Digital Output Driver Ground.", 39 OR- (out) "Out-of-Range Digital Output Complement.", 40 OR+ (out) "Out-of-Range Digital Output True.", 41 AGND (power) "Analog Ground.", 42 AVDD3 (power) "1.8 V Analog Supply.", 43 AGND (power) "Analog Ground.", 44 AVDD3 (power) "1.8 V Analog Supply.", 45 AGND (power) "Analog Ground.", 46 AVDD1 (power) "1.8 V Analog Supply.", 48 SDIO  (io) "Serial Data Input/Output.", 49 SCLK  (in) "Serial Clock.", 50 CSB (in) "Chip Select Bar.", 51 SPIVDD (power) "1.8 V or 3.3 V SPI Supply", 52 AVDD1 (power) "1.8 V Analog Supply.", 53 AVDD1 (power) "1.8 V Analog Supply.", 54 AVDD1 (power) "1.8 V Analog Supply.", 55 AVDD1 (power) "1.8 V Analog Supply.", 56 AVDD1 (power) "1.8 V Analog Supply.", 57 XVREF (in) "External VREF Option.", 58 AVDD1 (power) "1.8 V Analog Supply.", 59 AVDD1 (power) "1.8 V Analog Supply.", 60 AVDD1 (power) "1.8 V Analog Supply.", 61 AVDD1 (power) "1.8 V Analog Supply.", 62 AVDD1 (power) "1.8 V Analog Supply.", 63 AVDD1 (power) "1.8 V Analog Supply.", 64 AVDD2 (power) "3.3 V Analog Supply.", 65 AVDD2 (power) "3.3 V Analog Supply.", 66 VIN+ (in) "Analog InputTrue", 67 VIN- (in) "Analog InputComplement", 68 AVDD2 (power) "3.3 V Analog Supply.", 69 AVDD2 (power) "3.3 V Analog Supply.", 70 AVDD1 (power) "1.8 V Analog Supply.", 71 AVDD1 (power) "1.8 V Analog Supply.", 72 AVDD1 (power) "1.8 V Analog Supply.", EPAD (power) hidden to GND "Exposed Paddle. The exposed paddle must be connected to AGND."
text: ADC; AD9467

## AD9512BCPZ
designator D?  (value not drawn)
1.2 GHz Clock Distribution IC, 1.6 GHz Inputs,Dividers,Delay Adjust, Five Outputs; Manufacturer: Analog Devices; Type: Микросхема; SymAuthor: Антонов М.С.; BCPid: *; ManufacturerPartNumber: AD9512BCPZ; TU/GOST: *; Price: *; Rem: *; Package: CP-48-1; Name: *
footprint QFN50P700X700X100-48N (QFN, 48-Leads, Body 7,0x7,0mm (max), Pitch 0,50mm, IPC Medium Density)
pins: 1  DSYNC  (in) "Detect Sync. Used for multichip synchronization.", 2  ~{DSYNC}  (in) "Detect Sync Complement. Used for multichip synchronization.", 3 VS  (power) "Power Supply (3.3 V).", 4 VS (power) "Power Supply (3.3 V).", 5 DNC (power) hidden "Do Not Connect.", 6 VS  (power) "Power Supply (3.3 V).", 7  CLK2  (in) "Clock Input.", 8  ~{CLK2} (in) "Complementary Clock Input. Used in conjunction with CLK2.", 9 VS (power) "Power Supply (3.3 V).", 10  CLK1  (in) "Clock Input.", 11  ~{CLK1}  (in) "Complementary Clock Input. Used in conjunction with CLK1.", 12  FUNC (in) "Multipurpose Input. Can be programmed as a reset (RESETB), sync (SYNCB), or power-down (PDB) pin.", 13  STAT (out) "Output Used to Monitor the Status of Multichip Synchronization.", 14  SCLK  (in) "Serial Data Clock.", 15  SDIO  (io) "Serial Data I/O.", 16  SDO  (out) "Serial Data Output.", 17  ~{CS} (in) "Serial Port Chip Select.", 18 VS  (power) "Power Supply (3.3 V).", 19 GND (power) "Ground.", 20 ~{OUT2} (out) "Complementary LVPECL Output.", 21  OUT2 (out) "LVPECL Output.", 22 VS (power) "Power Supply (3.3 V).", 23 VS  (power) "Power Supply (3.3 V).", 24 GND (power) "Ground.", 25 VS (power) "Power Supply (3.3 V).", 26  ~{OUT1} (out) "Complementary LVPECL Output.", 27  OUT1 (out) "LVPECL Output.", 28 VS  (power) "Power Supply (3.3 V).", 29 VS (power) "Power Supply (3.3 V).", 30  ~{OUT4} (out) "Complementary LVDS/Inverted CMOS Output. OUT4 includes a delay block.", 31  OUT4 (out) "LVDS/CMOS Output. OUT4 includes a delay block.", 32 VS  (power) "Power Supply (3.3 V).", 33 VS (power) "Power Supply (3.3 V).", 34  ~{OUT3} (out) "Complementary LVDS/Inverted CMOS Output.", 35  OUT3 (out) "LVDS/CMOS Output.", 36 VS  (power) "Power Supply (3.3 V).", 37 GND (power) "Ground.", 38 GND (power) "Ground.", 39 VS (power) "Power Supply (3.3 V).", 40 VS  (power) "Power Supply (3.3 V).", 41  ~{OUT0} (out) "Complementary LVPECL Output.", 42  OUT0 (out) "LVPECL Output.", 43 GND (power) "Ground.", 44 VS (power) "Power Supply (3.3 V).", 45  RSET  (in) "Current Set Resistor to Ground. Nominal value = 4.12 kΩ.", 46 GND (power) "Ground.", 47 VS  (power) "Power Supply (3.3 V).", 48 VS (power) "Power Supply (3.3 V).", EPAD GND hidden to GND
text: F; AD9512

## AD9515BCPZ
designator D?  (value not drawn)
1.6 GHz Clock Distribution IC, Dividers, Delay Adjust, Two Outputs; Manufacturer: Analog Devices; Type: Микросхема; BCPId: *; Name: *; Package: CP-32-2; ManufacturerPartNumber: AD9515BCPZ; HelpURL: *; Price: *; Rem: *; TU/GOST: *
footprint QFN50P500X500X100-32N+325x325 (QFN, 32-Leads, Body 5,0x5,0mm (max), Pitch 0,50mm, IPC Medium Density with thermal tab 3.25x3.25)
pins: 1 VS (power) "Power Supply (3.3 V)", 2 CLK (in) "Clock Input", 3 ~{CLK} (in) "Complementary Clock Input. Used in conjunction with CLK", 4 VS (power) "Power Supply (3.3 V)", 5 ~{SYNC} (in) "Used to Synchronize the Outputs; Active Low Signal", 6 VREF "Provides 2/3 VSReference Voltage for Use with Programming Pins S0 to S10", 7 S10 (in) "Programming Pin", 8 S9 (in) "Programming Pin", 9 S8 (in) "Programming Pin", 10 S7 (in) "Programming Pin", 11 S6 (in) "Programming Pin", 12 S5 (in) "Programming Pin", 13 S4 (in) "Programming Pin", 14 S3 (in) "Programming Pin", 15 S2 (in) "Programming Pin", 16 S1 (in) "Programming Pin", 17 VS (power) "Power Supply (3.3 V)", 18 ~{OUT1} (out) "Complementary LVDS/Inverted CMOS Output. Includes a delay block", 19 OUT1 (out) "LVDS/CMOS Output. Includes a delay block", 20 VS (power) "Power Supply (3.3 V)", 21 VS (power) "Power Supply (3.3 V)", 22 ~{OUT0} (out) "Complementary LVPECL Output", 23 OUT0 (out) "LVPECL Output", 24 VS (power) "Power Supply (3.3 V)", 25 S0 (in) "Programming Pin", 26 VS (power) "Power Supply (3.3 V)", 29 VS (power) "Power Supply (3.3 V)", 30 VS (power) "Power Supply (3.3 V)", 31 GND "Ground. The exposed paddle on the back of the chip is also GND", 32 RSET "Current Sets Resistor to Ground. Nominal value = 4.12 kΩ", EPAD GND (power) hidden to GND "Ground. The exposed paddle on the back of the chip is also GND"
text: F; AD; 9515

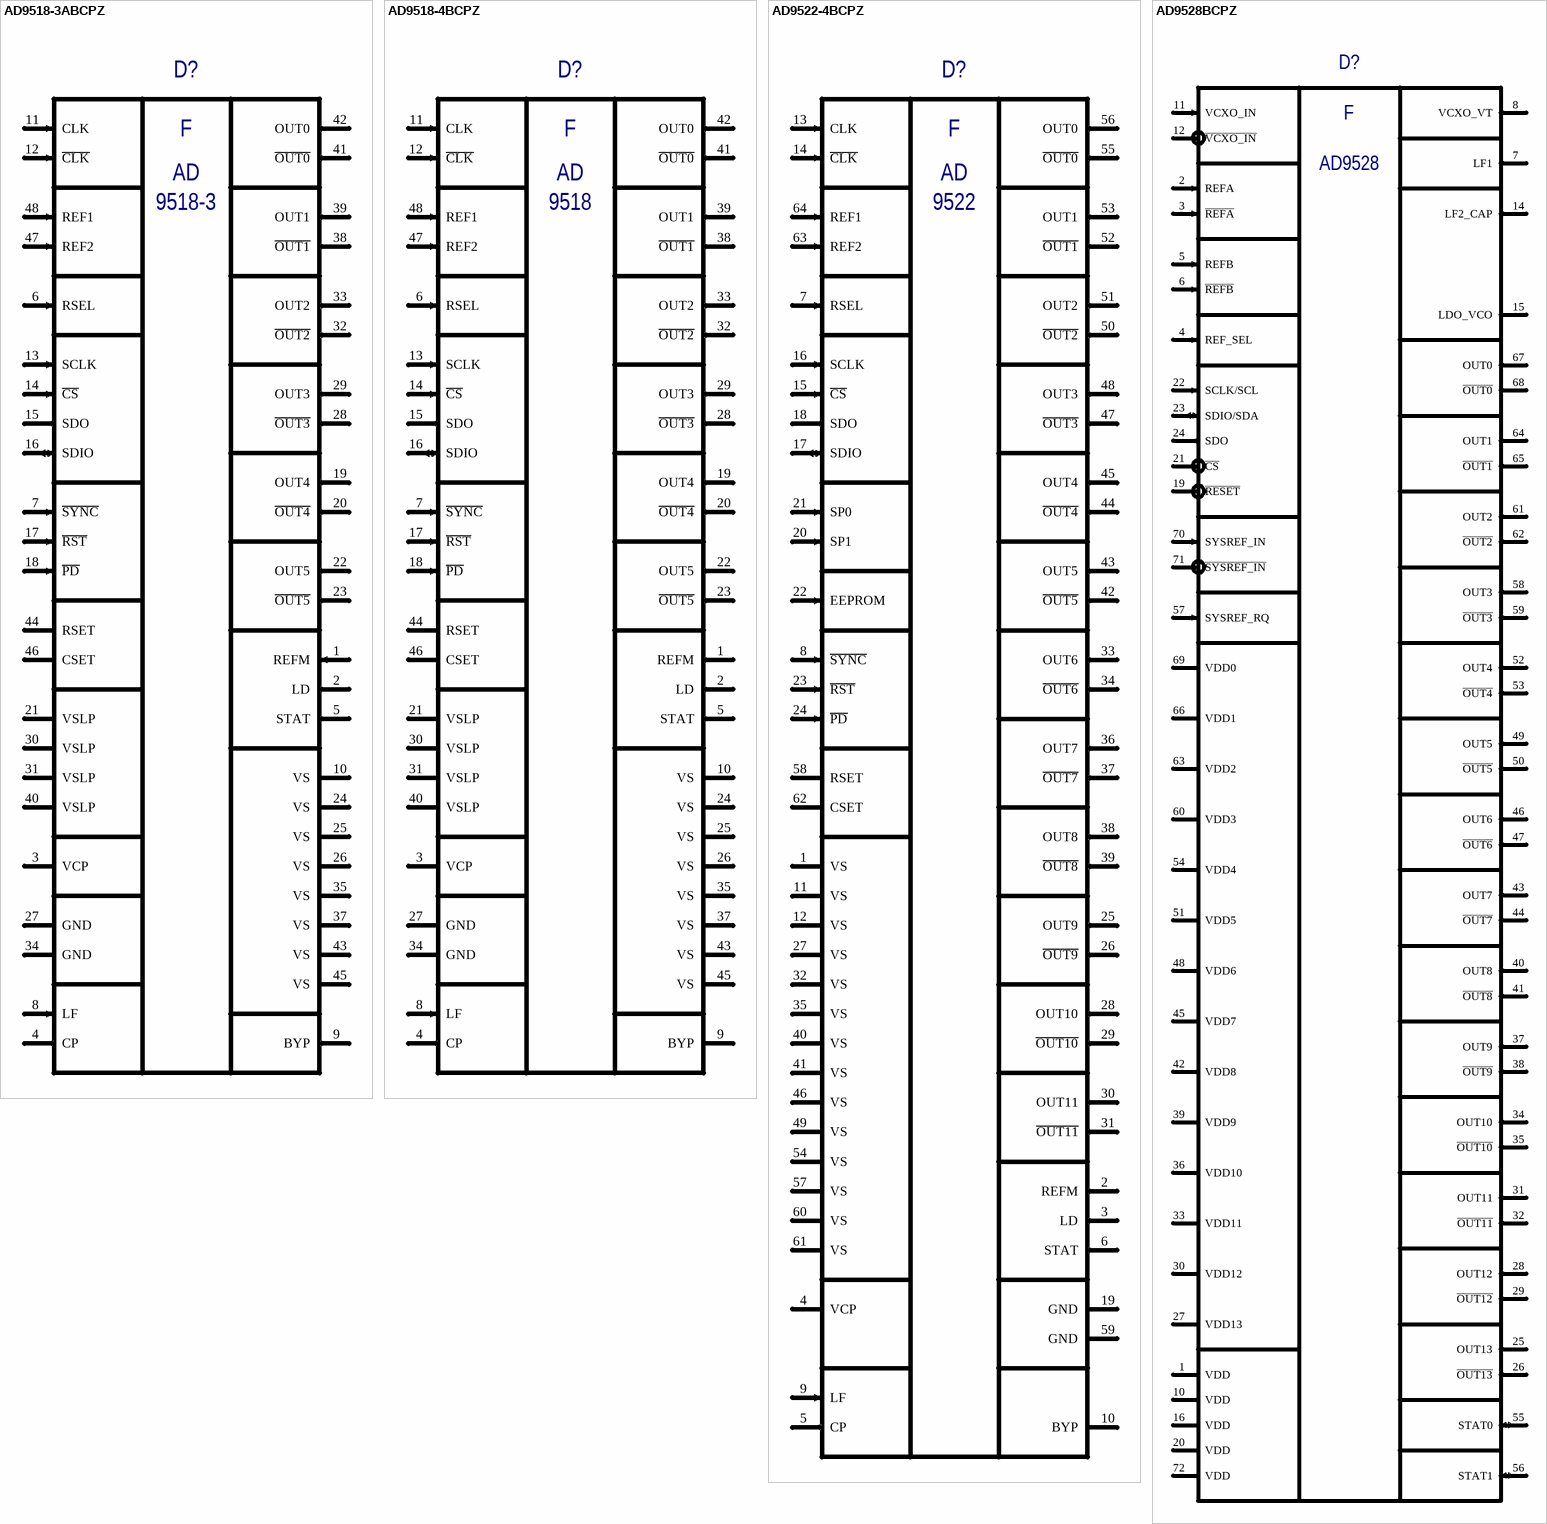
[diagram p3: symbols AD9518-3ABCPZ to AD9528BCPZ]

## AD9518-3ABCPZ
designator D?  (value not drawn)
6-Output Clock Generator with Integrated 2.0 GHz VCO; Manufacturer: Analog Devices; Type: Микросхема; SymAuthor: Семенов В.С.; BCPId: *; Name: *; Package: CP-48-8; ManufacturerPartNumber: AD9518-3ABCPZ; HelpURL: *; Price: *; Rem: *; TU/GOST: *
footprint QFN50P700X700X100_HS-49N (QFN, 48-Leads, Body 7,00x7,00mm, Pitch 0,50mm, Thermal Pad 5,50x5,50mm, IPC Medium Density)
pins: 1 REFM (in) "Reference Monitor", 2 LD (out) "Lock Detect", 3 VCP (power) "Power Supply for Charge Pump", 4 CP (out) "Charge Pump (Output). Connects to external loop filter.", 5 STAT (out) "Status", 6 RSEL (in) "Reference Select", 7 ~{SYNC} (in) "Manual Synchronizations and Manual Holdover", 8 LF (in) "Loop Filter", 9 BYP (out) "Loop Filter", 10 VS (power) "3.3 V Power Pin", 11 CLK (in) "Input for the clock distribution section", 12 ~{CLK} (in) "Inverse input for the clock distribution section", 13 SCLK (in) "Serial Control Port Data Clock Signal", 14 ~{CS} (in) "Serial Control Port Chip Select", 15 SDO (out) "Serial Control Port Unidirectional Serial Data Out", 16 SDIO (io) "Serial Control Port Bidirectional Serial Data In/Out", 17 ~{RST} (in) "Chip Reset", 18 ~{PD} (in) "Chip Power Down", 19 OUT4 (out) "LVPECL Output", 20 ~{OUT4} (out) "LVPECL Output", 21 VSLP (power) "Extended Voltage 2.5 V to 3.3 V LVPECL Power Pin", 22 OUT5 (out) "LVPECL Output", 23 ~{OUT5} (out) "LVPECL Output", 24 VS (power) "3.3 V Power Pin", 25 VS (power) "3.3 V Power Pin", 26 VS (power) "3.3 V Power Pin", 27 GND (power) "Ground.See the description for EPAD", 28 ~{OUT3} (out) "LVPECL Output", 29 OUT3 (out) "LVPECL Output", 30 VSLP (power) "Extended Voltage 2.5 V to 3.3 V LVPECL Power Pin", 31 VSLP (power) "Extended Voltage 2.5 V to 3.3 V LVPECL Power Pin", 32 ~{OUT2} (out) "LVPECL Output", 33 OUT2 (out) "LVPECL Output", 34 GND (power) "Ground.See the description for EPAD", 35 VS (power) "3.3 V Power Pin", 36 NC hidden, 37 VS (power) "3.3 V Power Pin", 38 ~{OUT1} (out) "LVPECL Output", 39 OUT1 (out) "LVPECL Output", 40 VSLP (power) "Extended Voltage 2.5 V to 3.3 V LVPECL Power Pin", 41 ~{OUT0} (out) "LVPECL Output", 42 OUT0 (out) "LVPECL Output", 43 VS (power) "3.3 V Power Pin", 44 RSET "Resistor connected here sets internal bias currents", 45 VS (power) "3.3 V Power Pin", 46 CSET "Resistor connected here sets the CP current range", 47 REF2 (in) "PLL reference", 48 REF1 (in) "PLL reference", EPAD GND (power) hidden to GND "Ground"
text: F; AD; 9518-3

## AD9518-4BCPZ
designator D?  (value not drawn)
6-Output Clock Generator with Integrated 1.6 GHz VCO; Manufacturer: Analog Devices; Type: Микросхема; BCPId: *; Name: *; Package: CP-48-8; ManufacturerPartNumber: AD9518-4BCPZ; HelpURL: *; Price: *; Rem: *; TU/GOST: *
footprint QFN50P700X700X100_HS-49N (QFN, 48-Leads, Body 7,00x7,00mm, Pitch 0,50mm, Thermal Pad 5,50x5,50mm, IPC Medium Density)
pins: 1 REFM (out) "Reference Monitor", 2 LD (out) "Lock Detect", 3 VCP (power) "Power Supply for Charge Pump", 4 CP (out) "Charge Pump (Output). Connects to external loop filter.", 5 STAT (out) "Status", 6 RSEL (in) "Reference Select", 7 ~{SYNC} (in) "Manual Synchronizations and Manual Holdover", 8 LF (in) "Loop Filter", 9 BYP "Loop Filter", 10 VS (power) "3.3 V Power Pin", 11 CLK (in) "Input for the clock distribution section", 12 ~{CLK} (in) "Inverse input for the clock distribution section", 13 SCLK (in) "Serial Control Port Data Clock Signal", 14 ~{CS} (in) "Serial Control Port Chip Select", 15 SDO (out) "Serial Control Port Unidirectional Serial Data Out", 16 SDIO (io) "Serial Control Port Bidirectional Serial Data In/Out", 17 ~{RST} (in) "Chip Reset", 18 ~{PD} (in) "Chip Power Down", 19 OUT4 (out) "LVPECL Output", 20 ~{OUT4} (out) "LVPECL Output", 21 VSLP (power) "Extended Voltage 2.5 V to 3.3 V LVPECL Power Pin", 22 OUT5 (out) "LVPECL Output", 23 ~{OUT5} (out) "LVPECL Output", 24 VS (power) "3.3 V Power Pin", 25 VS (power) "3.3 V Power Pin", 26 VS (power) "3.3 V Power Pin", 27 GND "Ground.See the description for EPAD", 28 ~{OUT3} (out) "LVPECL Output", 29 OUT3 (out) "LVPECL Output", 30 VSLP (power) "Extended Voltage 2.5 V to 3.3 V LVPECL Power Pin", 31 VSLP (power) "Extended Voltage 2.5 V to 3.3 V LVPECL Power Pin", 32 ~{OUT2} (out) "LVPECL Output", 33 OUT2 (out) "LVPECL Output", 34 GND "Ground.See the description for EPAD", 35 VS (power) "3.3 V Power Pin", 37 VS (power) "3.3 V Power Pin", 38 ~{OUT1} (out) "LVPECL Output", 39 OUT1 (out) "LVPECL Output", 40 VSLP (power) "Extended Voltage 2.5 V to 3.3 V LVPECL Power Pin", 41 ~{OUT0} (out) "LVPECL Output", 42 OUT0 (out) "LVPECL Output", 43 VS (power) "3.3 V Power Pin", 44 RSET "Resistor connected here sets internal bias currents", 45 VS (power) "3.3 V Power Pin", 46 CSET "Resistor connected here sets the CP current range", 47 REF2 (in) "PLL reference", 48 REF1 (in) "PLL reference", EPAD GND (power) hidden to GND "Ground"
text: F; AD; 9518

## AD9522-4BCPZ
designator D?  (value not drawn)
12 LVDS/24 CMOS Output Clock Generator with Integrated 1.6 GHz VCO; Manufacturer: Analog Devices; Type: Микросхема; BCPId: *; Name: *; Package: CP-64-4; ManufacturerPartNumber: AD9522-4BCPZ; HelpURL: *; Price: *; Rem: *; TU/GOST: *
footprint QFN50P900X900X100-65N (QFN, 64-Leads, Body 9,0x9,0mm (max), Pitch 0,50mm, IPC Medium Density)
footprint QFN50P900X900X100-65N - HS1 (QFN, 64-Leads, Body 9,0x9,0mm (max), Pitch 0,50mm, IPC Medium Density)
pins: 1 VS             (power) "3.3 V Power Pin", 2 REFM (out) "Reference Monitor", 3 LD (out) "Lock Detect", 4 VCP (power) "Power Supply for Charge Pump VS < VCP < 5.0 V. VCP must still be connected to 3.3 V if the PLL is not used.", 5 CP (out) "Charge Pump", 6 STAT (out) "Programmable Status Output", 7 RSEL (in) "Reference Select", 8 ~{SYNC} (in) "Manual Synchronizations and Manual Holdover", 9 LF (in) "Loop Filter", 10 BYP (power) "This pin is for bypassing the LDO to ground with a 220 nF capacitor", 11 VS (power) "3.3 V Power Pin", 12 VS (power) "3.3 V Power Pin", 13 CLK (in) "Differential input for the clock distribution section", 14 ~{CLK} (in) "Differential input for the clock distribution section", 15 ~{CS} (in) "Serial Control Port Chip Select", 16 SCLK (in) "Serial Control Port Clock Signal", 17 SDIO (io) "Serial Control Port Bidirectional Serial Data In/Out", 18 SDO (out) "Serial Control Port Unidirectional Serial Data Out", 19 GND (power) "Ground Pin", 20 SP1 (in) "Select SPI or I2C as the serial interface port and select the I2C slave address in I2C mode", 21 SP0 (in) "Select SPI or I2C as the serial interface port and select the I2C slave address in I2C mode", 22 EEPROM (in) "Setting this pin high selects the register values stored in the internal EEPROM to be loaded at reset and/or power-up", 23 ~{RST} (in) "Chip Reset. Active Low", 24 ~{PD} (in) "Chip Power-Down. Active Low", 25 OUT9 (out) "Differential LVDS or single-ended CMOS output", 26 ~{OUT9} (out) "Differential LVDS or single-ended CMOS output", 27 VS (power) "3.3 V Power Pin", 28 OUT10 (out) "Differential LVDS or single-ended CMOS output", 29 ~{OUT10} (out) "Differential LVDS or single-ended CMOS output", 30 OUT11 (out) "Differential LVDS or single-ended CMOS output", 31 ~{OUT11} (out) "Differential LVDS or single-ended CMOS output", 32 VS (power) "3.3 V Power Pin", 33 OUT6 (out) "Differential LVDS or single-ended CMOS output", 34 ~{OUT6} (out) "Differential LVDS or single-ended CMOS output", 35 VS (power) "3.3 V Power Pin", 36 OUT7 (out) "Differential LVDS or single-ended CMOS output", 37 ~{OUT7} (out) "Differential LVDS or single-ended CMOS output", 38 OUT8 (out) "Differential LVDS or single-ended CMOS output", 39 ~{OUT8} (out) "Differential LVDS or single-ended CMOS output", 40 VS (power) "3.3 V Power Pin", 41 VS (power) "3.3 V Power Pin", 42 ~{OUT5} (out) "Differential LVDS or single-ended CMOS output", 43 OUT5 (out) "Differential LVDS or single-ended CMOS output", 44 ~{OUT4} (out) "Differential LVDS or single-ended CMOS output", 45 OUT4 (out) "Differential LVDS or single-ended CMOS output", 46 VS (power) "3.3 V Power Pin", 47 ~{OUT3} (out) "Differential LVDS or single-ended CMOS output", 48 OUT3 (out) "Differential LVDS or single-ended CMOS output", 49 VS (power) "3.3 V Power Pin", 50 ~{OUT2} (out) "Differential LVDS or single-ended CMOS output", 51 OUT2 (out) "Differential LVDS or single-ended CMOS output", 52 ~{OUT1} (out) "Differential LVDS or single-ended CMOS output", 53 OUT1 (out) "Differential LVDS or single-ended CMOS output", 54 VS (power) "3.3 V Power Pin", 55 ~{OUT0} (out) "Differential LVDS or single-ended CMOS output", 56 OUT0 (out) "Differential LVDS or single-ended CMOS output", 57 VS (power) "3.3 V Power Pin", 58 RSET "Clock Distribution Current Set Resistor. Connect a 4.12 kOhm resistor from this pin to GND.", 59 GND (power) "Ground Pin", 60 VS (power) "3.3 V Power Pin", 61 VS (power) "3.3 V Power Pin", 62 CSET "Charge Pump Current Set Resistor. Connect a 5.1 kOhm resistor from this pin to GND", 63 REF2 (in) "Differential input for the PLL reference", 64 REF1 (in) "Differential input for the PLL reference", EPAD GND (power) hidden to GND "The exposed die pad must be connected to GND"
text: F; AD; 9522

## AD9528BCPZ
designator D?  (value not drawn)
JESD204B Clock Generator with 14 LVDS/HSTL Outputs; Manufacturer: Analog Devices; Type: Микросхема; SymAuthor: Ерешко П.А.; Package: CP-72-6; ManufacturerPartNumber: AD9528BCPZ
footprint QFN50P1000X1000X100_HS-73N (QFN, 72-Leads, Body 10,00x10,00mm, Pitch 0,50mm, Thermal Pad 5,45x5,45mm, IPC Medium Density)
pins: 1 VDD (power) "3.3 V Supply for the PLL1  Input Section", 2 REFA (in) "Reference Clock Input A", 3 ~{REFA} (in) "Complementary Reference Clock Input A", 4 REF_SEL (in) "Reference Input Select", 5 REFB (in) "Reference Clock Input B", 6 ~{REFB} (in) "Complementary Reference Clock Input B", 7 LF1 (out) "PLL1 External Loop Filter", 8 VCXO_VT (out) "VCXO Control Voltage", 9 NIC hidden "No Internal Connection. The pin can be left floating", 10 VDD (power) "3.3 V Supply for the PLL2 Section", 11 VCXO_IN (in) "PLL1 Oscillator Input", 12 ~{VCXO_IN} (in) "Complementary PLL1 Oscillator Input", 13 NIC hidden "No Internal Connection. The pin can be left floating", 14 LF2_CAP (out) "PLL2 External Loop Filter Capacitor Connection", 15 LDO_VCO "2.5 V LDO Internal Regulator Decoupling for the VCO", 16 VDD (power) "3.3 V Supply for the PLL2 Internal Regulator", 17 NIC hidden "No Internal Connection. The pin can be left floating", 18 NIC hidden "No Internal Connection. The pin can be left floating", 19 ~{RESET} (in) "Digital Input(Active Low). Resets internal logic to default states", 20 VDD (power) "3.3 V Supply for the PLL2 Internal Regulator", 21 ~{CS} (in) "Serial Control Port Chip Select", 22 SCLK/SCL (in) "Serial Control Port Clock Signal", 23 SDIO/SDA (io) "Serial Control Port Bidirectional Serial Data", 24 SDO (out) "Serial Data Output", 25 OUT13 (out) "Square Wave Clocking Output 13", 26 ~{OUT13} (out) "Complementary Square Wave Clocking Output 13", 27 VDD13 (power) "3.3 V Supply for the Output 13 Clock Driver", 28 OUT12 (out) "Square Wave Clocking Output 12", 29 ~{OUT12} (out) "Complementary Square Wave Clocking Output 12", 30 VDD12 (power) "3.3 V Supply for the Output 12 Clock Divider", 31 OUT11 (out) "Square Wave Clocking Output 11", 32 ~{OUT11} (out) "Complementary Square Wave Clocking Output 11", 33 VDD11 (power) "3.3 V Supply for the Output 11 Clock Driver", 34 OUT10 (out) "Square Wave Clocking Output 10", 35 ~{OUT10} (out) "Complementary Square Wave Clocking Output 10", 36 VDD10 (power) "3.3 V Supply for the Output 10 Clock Divider", 37 OUT9 (out) "Square Wave Clocking Output 9", 38 ~{OUT9} (out) "Complementary Square Wave Clocking Output 9", 39 VDD9 (power) "3.3 V Supply for the Output 9 Clock Driver", 40 OUT8 (out) "Square Wave Clocking Output 8", 41 ~{OUT8} (out) "Complementary Square Wave Clocking Output 8", 42 VDD8 (power) "3.3 V Supply for the Output 8 Clock Divider", 43 OUT7 (out) "Square Wave Clocking Output 7", 44 ~{OUT7} (out) "Complementary Square Wave Clocking Output 7", 45 VDD7 (power) "3.3 V Supply for the Output 7 Clock Driver", 46 OUT6 (out) "Square Wave Clocking Output 6", 47 ~{OUT6} (out) "Complementary Square Wave Clocking Output 6", 48 VDD6 (power) "3.3 V Supply for the Output 6 Clock Divider", 49 OUT5 (out) "Square Wave Clocking Output 5", 50 ~{OUT5} (out) "Complementary Square Wave Clocking Output 5", 51 VDD5 (power) "3.3 V Supply for the Output 5 Clock Driver", 52 OUT4 (out) "Square Wave Clocking Output 4", 53 ~{OUT4} (out) "Complementary Square Wave Clocking Output 4", 54 VDD4 (power) "3.3 V Supply for the Output 4 Clock Divider", 55 STAT0 (io) "Lock Detect and Other Status Signals", 56 STAT1 (io) "Lock Detect and Other Status Signals", 57 SYSREF_RQ (in) "SYSREF Request Input Logic Control", 58 OUT3 (out) "Square Wave Clocking Output 3", 59 ~{OUT3} (out) "Complementary Square Wave Clocking Output 3", 60 VDD3 (power) "3.3 V Supply for the Output 3 Clock Driver", 61 OUT2 (out) "Square Wave Clocking Output 2", 62 ~{OUT2} (out) "Complementary Square Wave Clocking Output 2", 63 VDD2 (power) "3.3 V Supply for the Output 2 Clock Divider", 64 OUT1 (out) "Square Wave Clocking Output 1", 65 ~{OUT1} (out) "Complementary Square Wave Clocking Output 1", 66 VDD1 (power) "3.3 V Supply for the Output 1 Clock Driver", 67 OUT0 (out) "Square Wave Clocking Output 0", 68 ~{OUT0} (out) "Complementary Square Wave Clocking Output 0", 69 VDD0 (power) "3.3 V Supply for the Output 0 Clock Divider", 70 SYSREF_IN (in) "External SYSREF Input Clock", 71 ~{SYSREF_IN} (in) "Complementary External SYSREF Input Clock", 72 VDD (power) "3.3 V Supply for the PLL1 Input Section", EPAD (power) hidden to GND "Exposed Pad. Connect to GND"
text: F; AD9528

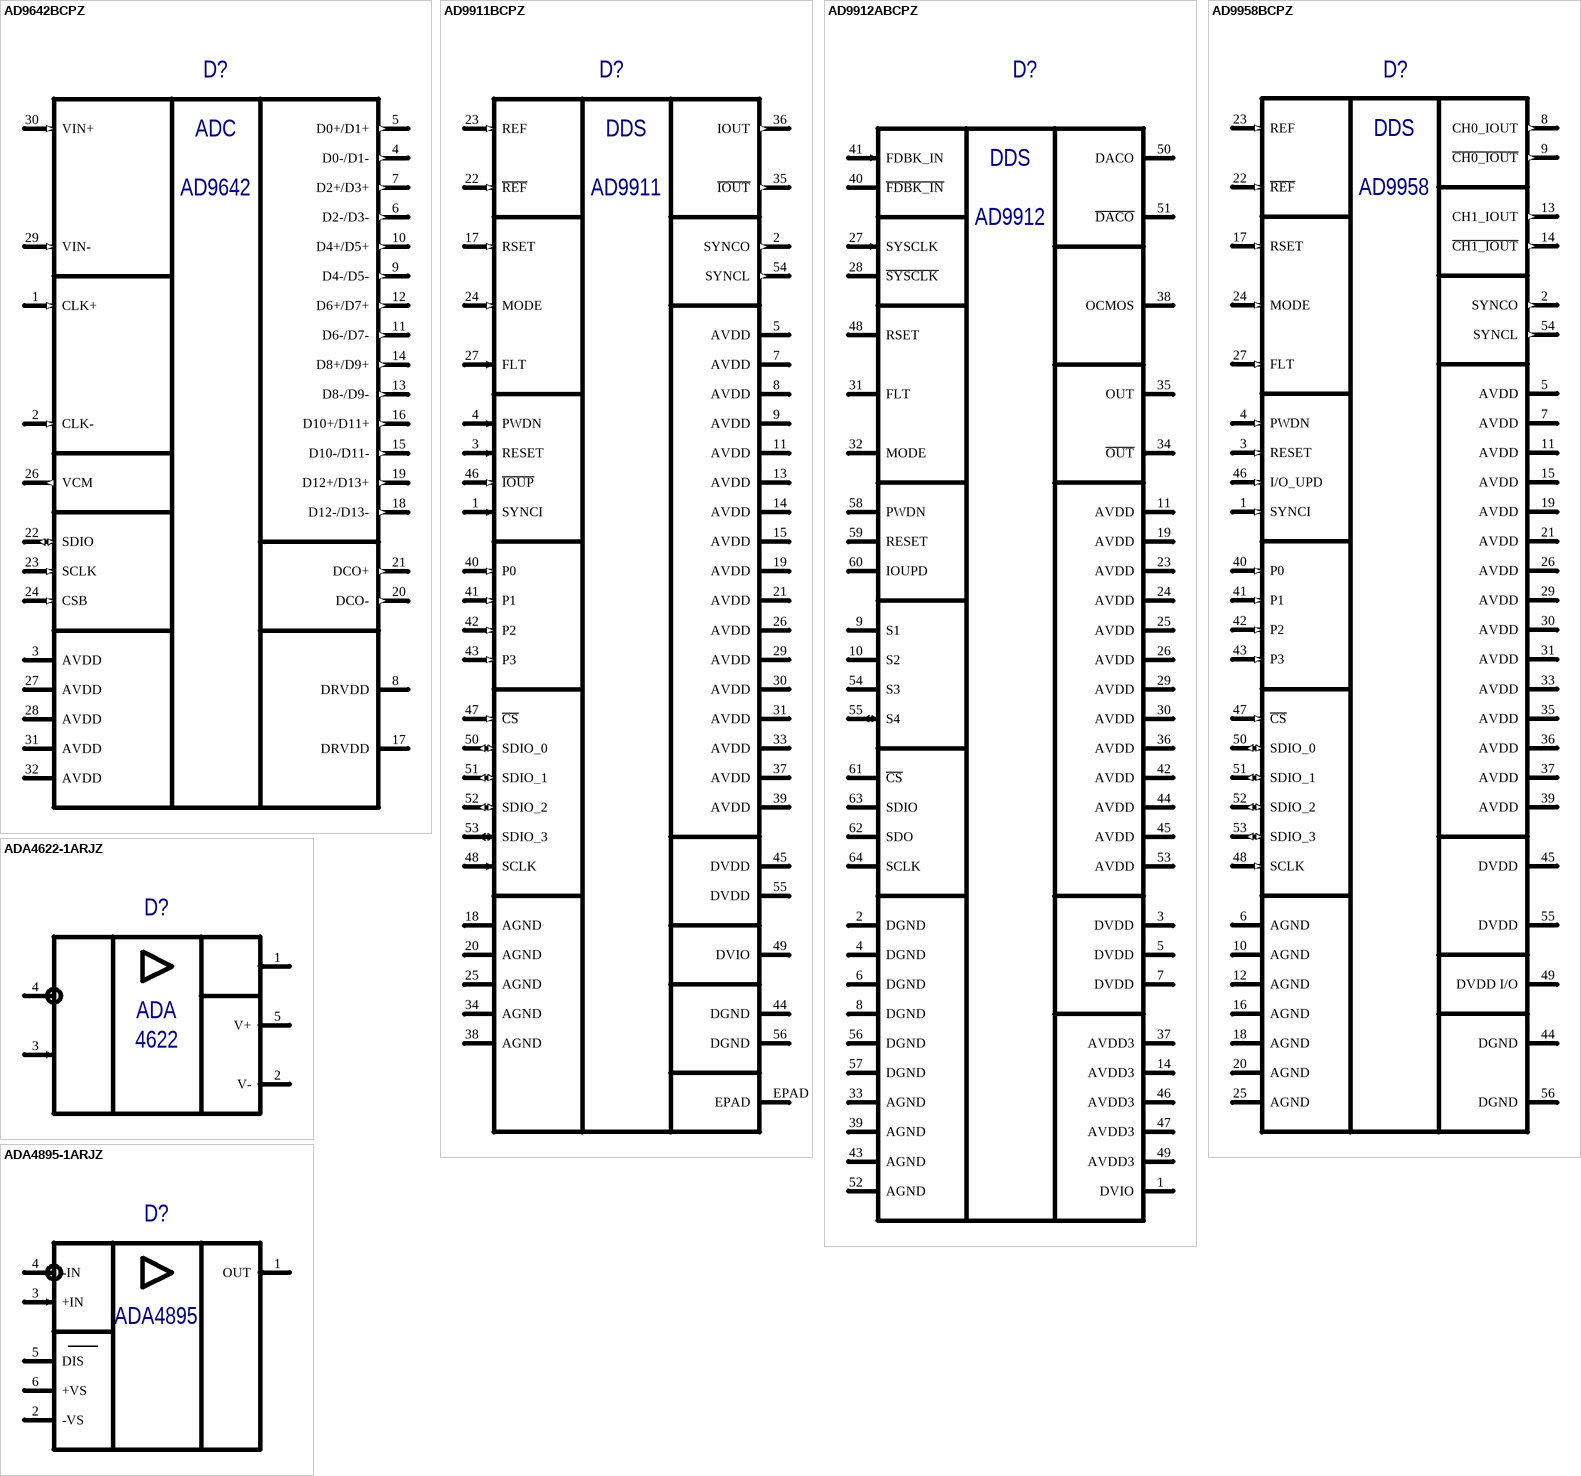
[diagram p4: symbols AD9642BCPZ to ADA4895-1ARJZ]

## AD9642BCPZ
designator D?, comment AD9642BCPZ-250  (value not drawn)
14-Bit, 250 MSPS ADC; Manufacturer: Analog Devices; Type: Микросхема; BCPId: *; Name: *; Package: CP-32-12; ManufacturerPartNumber: AD9642BCPZ-250; HelpURL: *; Price: *; Rem: *; TU/GOST: *
footprint QFN50P500X500X80-33N (QFN, 32-Leads, Body 5,00x5,00mm, Pitch 0,50mm, Thermal Pad 3,75x3,75mm, IPC Medium Density)
pins: 1 CLK+ (in) "ADC Clock Input—True", 2 CLK- (in) "ADC Clock Input—Complement", 3 AVDD (power) "Analog Power Supply (1.8 V Nominal)", 4 D0-/D1- (out) "DDR LVDS Output Data 0/1—Complement", 5 D0+/D1+ (out) "DDR LVDS Output Data 0/1—True", 6 D2-/D3- (out) "DDR LVDS Output Data 2/3—Complement", 7 D2+/D3+ (out) "DDR LVDS Output Data 2/3—True", 8 DRVDD (power) "Digital Output Driver Supply (1.8 V Nominal).", 9 D4-/D5- (out) "DDR LVDS Output Data 4/5—Complement", 10 D4+/D5+ (out) "DDR LVDS Output Data 4/5—True", 11 D6-/D7- (out) "DDR LVDS Output Data 6/7—Complement", 12 D6+/D7+ (out) "DDR LVDS Output Data 6/7—True", 13 D8-/D9- (out) "DDR LVDS Output Data 8/9—Complement", 14 D8+/D9+ (out) "DDR LVDS Output Data 8/9—True", 15 D10-/D11- (out) "DDR LVDS Output Data 10/11—Complement", 16 D10+/D11+ (out) "DDR LVDS Output Data 10/11—True", 17 DRVDD (power) "Digital Output Driver Supply (1.8 V Nominal).", 18 D12-/D13- (out) "DDR LVDS Output Data 12/13—Complement", 19 D12+/D13+ (out) "DDR LVDS Output Data 12/13—True", 20 DCO- (out) "LVDS Data Clock Output—Complement", 21 DCO+ (out) "LVDS Data Clock Output—True", 22 SDIO (io) "SPI Serial Data I/O", 23 SCLK (in) "SPI Serial Clock", 24 CSB (in) "SPI Chip Select (Active Low)", 25 DNC hidden "Do Not Connect", 26 VCM  (out) "Common-Mode Level Bias Output for Analog Inputs", 27 AVDD (power) "Analog Power Supply (1.8 V Nominal)", 28 AVDD (power) "Analog Power Supply (1.8 V Nominal)", 29 VIN- (in) "Differential Analog Input Pin (-)", 30 VIN+ (in) "Differential Analog Input Pin (+)", 31 AVDD (power) "Analog Power Supply (1.8 V Nominal)", 32 AVDD (power) "Analog Power Supply (1.8 V Nominal)", EPAD AGND (power) hidden to GND "Exposed Paddle. The exposed paddle must be connected to AGND."
text: ADC; AD9642